# EAGLE library part LTC6405 (library Jim)
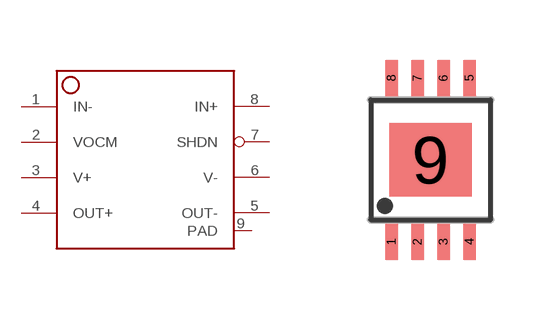
[diagram p36: symbol with the pads of MSOP8-PPAD; footprint MSOP8-PPAD]

Designator prefix -

## LTC6405  [MSOP8-PPAD]
1  IN-
2  VOCM
3  V+
4  OUT+  pwr
5  OUT-
6  V-
7  SHDN
8  IN+  pwr
9  PAD  pwr

## Footprint MSOP8-PPAD (pad centres in mm)
MSOP8
smd 0.32 x 0.9: 1 -0.975,-2.05; 2 -0.325,-2.05; 3 0.325,-2.05; 4 0.975,-2.05; 5 0.975,2.05; 6 0.325,2.05; 7 -0.325,2.05; 8 -0.975,2.05
smd 2.06 x 1.83: 9 0,0